# Altium schematic symbol library IC_PIC16C55.Schlib: 1 symbol
Pins are listed as number, name and electrical type; pins without a type are passive.

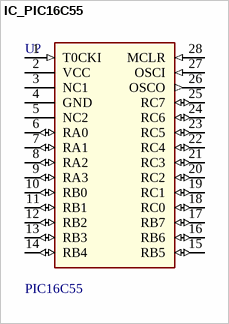
[diagram p0: symbol IC_PIC16C55]

## IC_PIC16C55
designator U?, comment PIC16C55
pins: 1 T0CKI (in), 2 VCC, 3 NC1, 4 GND, 5 NC2, 6 RA0 (io), 7 RA1 (io), 8 RA2 (io), 9 RA3 (io), 10 RB0 (io), 11 RB1 (io), 12 RB2 (io), 13 RB3 (io), 14 RB4 (io), 15 RB5 (io), 16 RB6 (io), 17 RB7 (io), 18 RC0 (io), 19 RC1 (io), 20 RC2 (io), 21 RC3 (io), 22 RC4 (io), 23 RC5 (io), 24 RC6 (io), 25 RC7 (io), 26 OSCO (out), 27 OSCI (in), 28 MCLR (in)